# EAGLE library part LEIST-16 (library MDB_HOME)
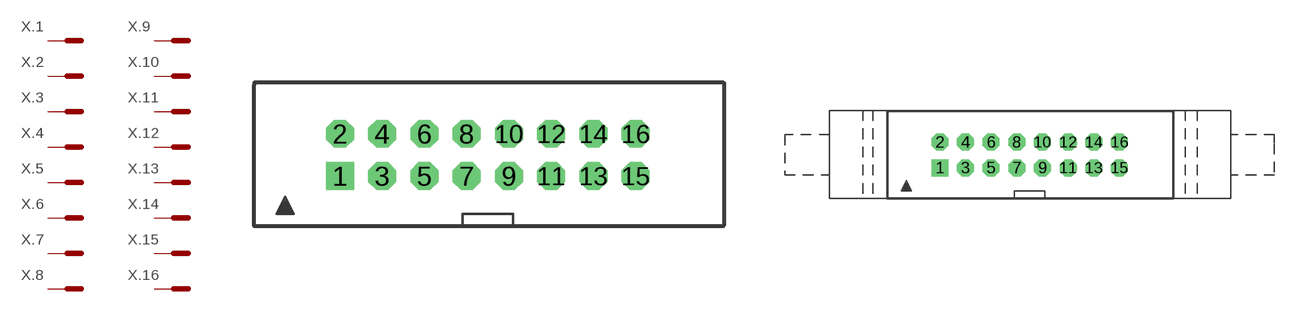
[diagram p16: symbol with the pads of LEIST-16; footprints LEIST-16, LEIST-16(HEBEL)]

Designator prefix X; gates .1=STECK .2=STECK .3=STECK .4=STECK .5=STECK .6=STECK .7=STECK .8=STECK .9=STECK .10=STECK .11=STECK .12=STECK .13=STECK .14=STECK .15=STECK .16=STECK

## LEIST-16  [LEIST-16]
1  .1:ST  pas
2  .2:ST  pas
3  .3:ST  pas
4  .4:ST  pas
5  .5:ST  pas
6  .6:ST  pas
7  .7:ST  pas
8  .8:ST  pas
9  .9:ST  pas
10  .10:ST  pas
11  .11:ST  pas
12  .12:ST  pas
13  .13:ST  pas
14  .14:ST  pas
15  .15:ST  pas
16  .16:ST  pas

## LEIST-16H  [LEIST-16(HEBEL)]
Pads as for LEIST-16

## LEIST-16SP  [LEIST-16-SMAL-PIN]
Pads as for LEIST-16

## Footprint LEIST-16 (pad centres in mm)
drill 0.889 pad 1.676 square: 1 -8.89,-1.27
drill 0.889 pad 1.676 octagon: 2 -8.89,1.27; 3 -6.35,-1.27; 4 -6.35,1.27; 5 -3.81,-1.27; 6 -3.81,1.27; 7 -1.27,-1.27; 8 -1.27,1.27; 9 1.27,-1.27; 10 1.27,1.27; 11 3.81,-1.27; 12 3.81,1.27; 13 6.35,-1.27; 14 6.35,1.27; 15 8.89,-1.27; 16 8.89,1.27

## Footprint LEIST-16(HEBEL) (pad centres in mm)
drill 0.889 pad 1.676 square: 1 -8.89,-1.27
drill 0.889 pad 1.676 octagon: 2 -8.89,1.27; 3 -6.35,-1.27; 4 -6.35,1.27; 5 -3.81,-1.27; 6 -3.81,1.27; 7 -1.27,-1.27; 8 -1.27,1.27; 9 1.27,-1.27; 10 1.27,1.27; 11 3.81,-1.27; 12 3.81,1.27; 13 6.35,-1.27; 14 6.35,1.27; 15 8.89,-1.27; 16 8.89,1.27

## Footprint LEIST-16-SMAL-PIN (pad centres in mm)
drill 0.889 pad 1.676 square: 1 -8.89,-1.27
drill 0.889 pad 1.27 offset: 2 -8.89,1.27; 4 -6.35,1.27; 6 -3.81,1.27; 8 -1.27,1.27; 10 1.27,1.27; 12 3.81,1.27; 14 6.35,1.27; 16 8.89,1.27
drill 0.889 pad 1.676 octagon: 3 -6.35,-1.27; 5 -3.81,-1.27; 7 -1.27,-1.27; 9 1.27,-1.27; 11 3.81,-1.27; 13 6.35,-1.27; 15 8.89,-1.27